# EAGLE library part VNH7100AS (library h-bridge)
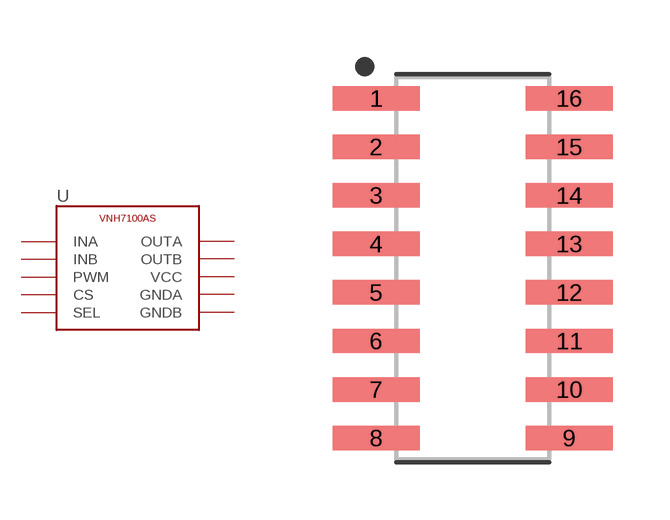
[diagram p0: symbol with the pads of SOIC127P600X175-16M; footprint SOIC127P600X175-16M]

Designator prefix U

## VNH7100AS  [SOIC127P600X175-16M]
1  GNDA
2  OUTA
3  INA
4  VCC
5  VCC
6  INB
7  OUTB
8  GNDB
9  GNDB
10  OUTB
11  PWM
12  VCC
13  CS
14  SEL
15  OUTA
16  GNDA

## Footprint SOIC127P600X175-16M (pad centres in mm)
16-SOIC, 1.27 mm pitch, 6.00 mm span, 9.90 X 3.90 X 1.75 mm body 16-pin SOIC package with 1.27 mm pitch, 6.00 mm span with body size 9.90 X 3.90 X 1.75 mm
smd 2.268 x 0.639: 1 -2.523,4.445; 2 -2.523,3.175; 3 -2.523,1.905; 4 -2.523,0.635; 5 -2.523,-0.635; 6 -2.523,-1.905; 7 -2.523,-3.175; 8 -2.523,-4.445; 9 2.523,-4.445; 10 2.523,-3.175; 11 2.523,-1.905; 12 2.523,-0.635; 13 2.523,0.635; 14 2.523,1.905; 15 2.523,3.175; 16 2.523,4.445